# Altium schematic symbol library AMS1117.SchLib: 1 symbol
Pins are listed as number, name and electrical type; pins without a type are passive.

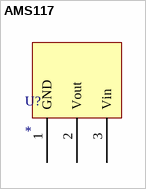
[diagram p0: symbol AMS117]

## AMS117
designator U?
footprint SOT223_N (6.4x7x1.6mm(长宽高))
pins: 1 GND, 2 Vout, 3 Vin